# Altium footprint library Userlib.PcbLib: 17 footprints (part 1 of 2)
Each footprint in its own frame and in the unit in brackets; x right, y up, seen from the top. Pads: shape width x height; smd on the part's side, far side on the other; paste and mask are expansions set on the pad; w line width, h text height; cw(c..) or ccw(c..) is an arc to the next point about the centre after c.
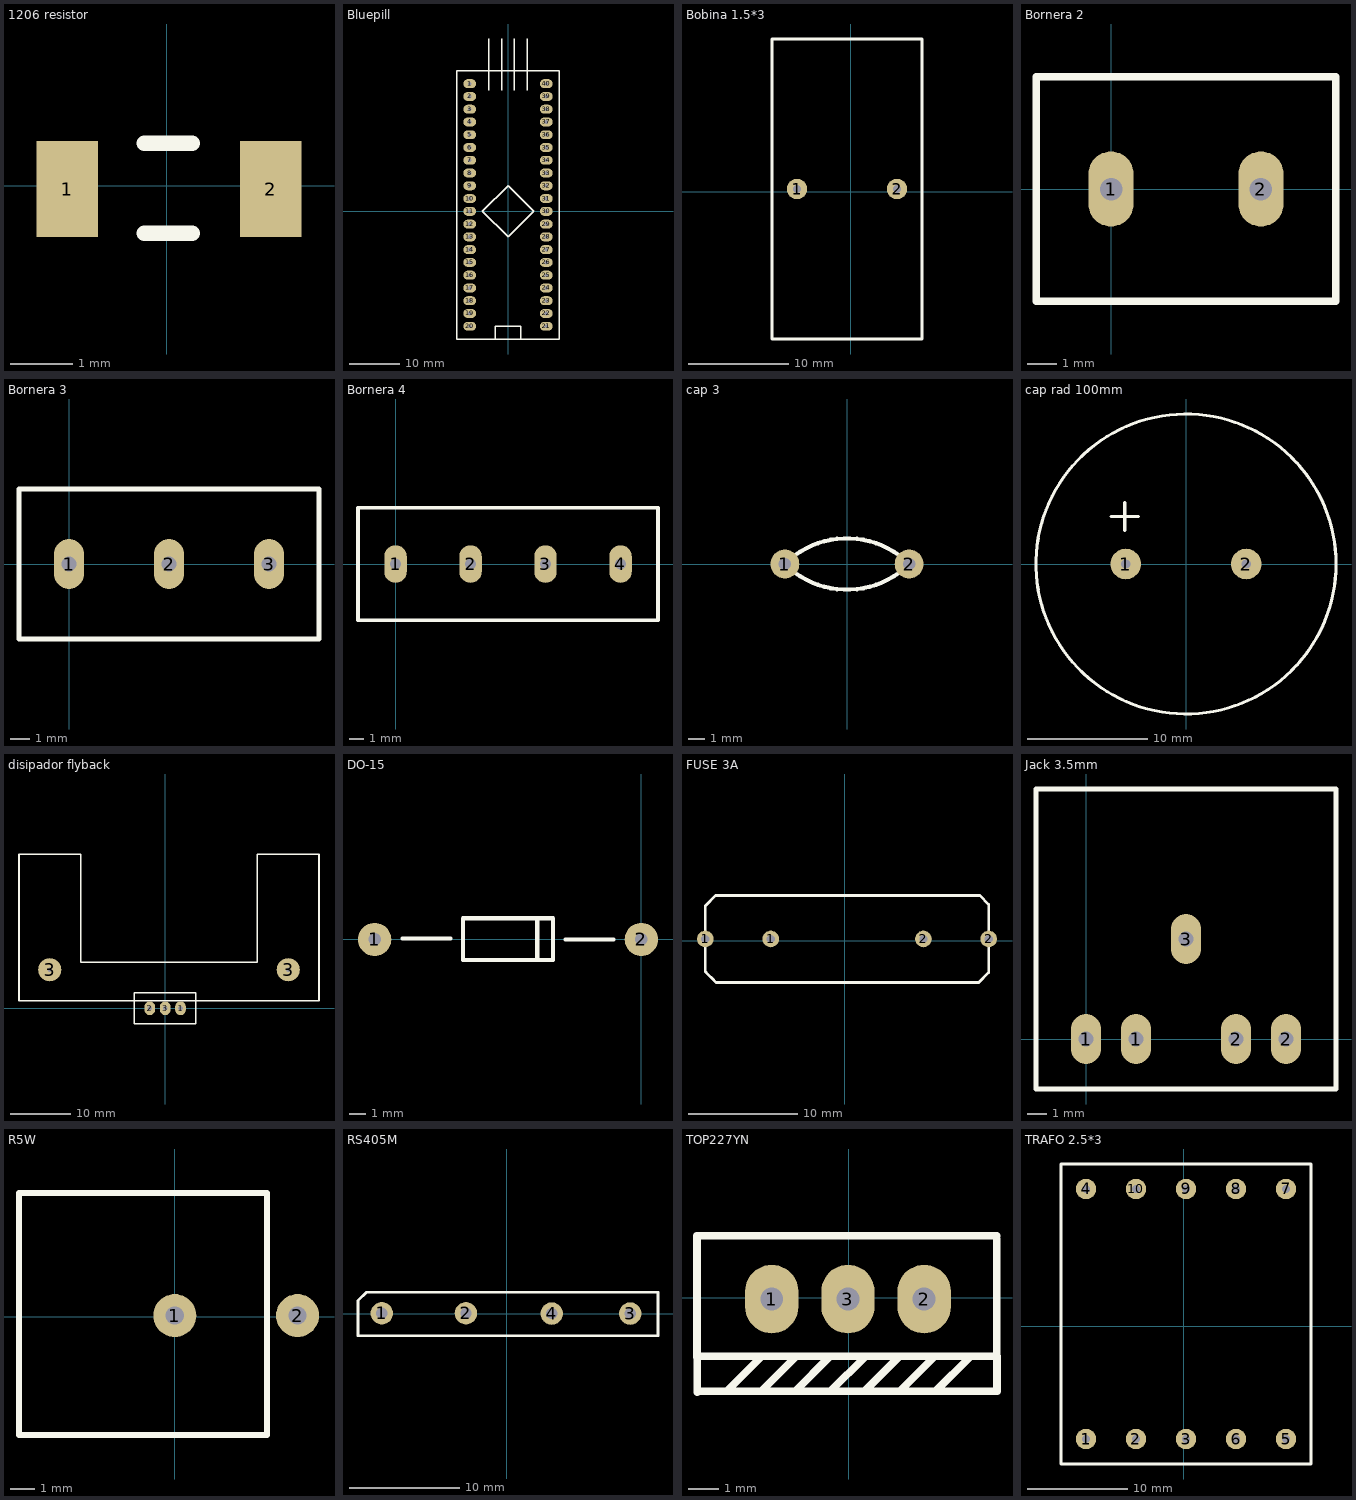
[diagram p0: the footprints below, top view; thin cyan lines are the x and y axes]

## 1206 resistor [mil]
pads (2):
  rect 39x61 smd: 1(-63,-2) 2(66,-2)
Top Overlay:
  lines w10: -14,-30 16,-30 ; -14,27 16,27

## Bluepill [mil]
pads (40):
  oval 100x70 hole 30: 1(-300,1000) 2(-300,900) 3(-300,800) 4(-300,700) 5(-300,600) 6(-300,500) 7(-300,400) 8(-300,300) 9(-300,200) 10(-300,100) 11(-300,0) 12(-300,-100) 13(-300,-200) 14(-300,-300) 15(-300,-400) 16(-300,-500) 17(-300,-600) 18(-300,-700) 19(-300,-800) 20(-300,-900) 21(300,-900) 22(300,-800) 23(300,-700) 24(300,-600) 25(300,-500) 26(300,-400) 27(300,-300) 28(300,-200) 29(300,-100) 30(300,0) 31(300,100) 32(300,200) 33(300,300) 34(300,400) 35(300,500) 36(300,600) 37(300,700) 38(300,800) 39(300,900) 40(300,1000)
Top Overlay:
  lines w10: -150,950 -150,1350 ; -100,-1000 -100,-900 100,-900 100,-1000 ; -50,950 -50,1350 ; 50,950 50,1350 ; 150,950 150,1350 ; -400,-1000 -400,1100 400,1100 400,-1000 -400,-1000 ; -200,0 0,-200 200,0 0,200 -200,0

## Bobina 1.5*3 [mil]
pads (2):
  round 80 hole 30: 1(-210.7,11) 2(183,11)
Top Overlay:
  lines w10: -309.12,-579.55 281.43,-579.55 281.43,11 281.43,601.55 -309.12,601.55 -309.12,-579.55

## Bornera 2 [mil]
pads (2):
  oval 60x100 hole 30: 1(0,0) 2(200,0)
Top Overlay:
  lines w10: -100,-150 300,-150 300,150 -100,150 -100,-150

## Bornera 3 [mil]
pads (3):
  oval 60x100 hole 30: 1(0,0) 2(200,0) 3(400,0)
Top Overlay:
  lines w10: -100,-150 500,-150 500,150 -100,150 -100,-150

## Bornera 4 [mil]
pads (4):
  oval 60x100 hole 30: 1(0,0) 2(200,0) 3(400,0) 4(600,0)
Top Overlay:
  lines w10: -100,-150 -100,150 700,150 700,-150 -100,-150

## cap 3 [mil]
pads (2):
  round 70 hole 30: 1(-150,0) 2(150,0)
Top Overlay:
  lines w10: -150,0 cw(c0,-150) 150,0 cw(c0,150) -150,0

## cap rad 100mm [mil]
pads (2):
  round 100 hole 30: 1(-196.85,0) 2(196.85,0)
Top Overlay:
  circle w10: c0,0 r490
  lines w10: -245,155 -155,155 ; -200,110 -200,200

## disipador flyback [mil]
pads (5):
  oval 70x90 hole 30 square: 1(100,0) 2(-100,0) 3(0,0)
  round 150 hole 30 square: 3(-750,250) 3(800,250)
Top Overlay:
  lines w10: -200,50 -950,50 -950,1000 -550,1000 -550,300 600,300 600,1000 1000,1000 1000,50 200,50 ; -200,50 200,50 ; -200,50 -200,100 ; -200,100 200,100 200,50 ; -200,100 -200,-100 200,-100 200,50

## DO-15 [mil]
pads (2):
  round 80 hole 30: 1(-640,0) 2(0,0)
Top Overlay:
  lines w10: -573,2 -458,2 ; -250,-49 -250,-24 -250,26 -250,51 ; -182,0 -67,0 ; -428,-49 -428,51 -212,51 -212,-49 -428,-49

## FUSE 3A [mil]
pads (4):
  round 60 hole 30: 1(-502.88,6.6) 1(-266.68,6.6) 2(284.52,6.6) 2(520.02,6.6)
Top Overlay:
  lines w10: -465.48,163.5 488.02,163.5 520.02,131.5 520.02,6.6 520.02,-110.8 520.02,-114.8 484.02,-150.8 -463.97,-150.8 -478,-136.78 -493.73,-121.05 -500.85,-113.92 -502.88,-111.9 -502.88,6.6 -502.88,126.4 -465.48,163.8

## Jack 3.5mm [mil]
pads (5):
  oval 60x100 hole 30: 1(0,0) 1(100,0) 2(300,0) 2(400,0) 3(200,200)
Top Layer:
  region: 400,400
Top Overlay:
  lines w10: -100,-100 -100,500 500,500 500,-100 -100,-100

## R5W [mil]
pads (2):
  round 70 hole 30: 1(0.21,2) 2(200.21,2)
Top Overlay:
  lines w10: -253.79,-193 -244.79,-193 150.21,-193 150.21,202 -246.79,202 -253.79,202 -253.79,-193

## RS405M [mil]
pads (4):
  round 80 hole 40: 1(-446,1) 2(-146,1) 3(440,0) 4(160,0)
Top Overlay:
  lines w10: -531,-79 -531,46 -501,76 539,76 539,-79 -531,-79

## TOP227YN [mil]
pads (3):
  oval 70x90 hole 30: 1(-101,-2) 2(99,-2) 3(-1,-2)
Top Overlay:
  lines w10: -199.2,-78.5 -199.2,-15.1 -199.2,77.5 ; -199.2,80.9 -120.4,80.9 ; -199.05,-124.15 -199.05,-123.25 -199.05,-77.25 194.65,-77.25 ; -198.15,-123.25 125.95,-123.25 ; -159.9,-122.8 -115.45,-78.35 ; -123.9,80.9 194.5,80.9 ; -114.05,-122.25 -68.95,-77.15 ; -70.35,-123.15 -25.25,-78.05 ; -23.55,-122.55 21.55,-77.45 ; 21.55,-122.05 64.7,-78.9 ; 67.45,-122.55 112.55,-77.45 ; 114.55,-122.55 159.65,-77.45 ; 117.05,-123.25 194.65,-123.25 194.65,-77.45 ; 194.5,-79.1 194.5,77.1

## TRAFO 2.5*3 [mil]
pads (10):
  round 80 hole 30: 1(-385.76,-444.21) 2(-188.91,-444.21) 3(7.94,-444.21) 4(-385.76,540.04) 5(401.64,-444.21) 6(204.79,-444.21) 7(401.64,540.04) 8(204.79,540.04) 9(7.94,540.04) 10(-188.91,540.04)
Top Overlay:
  lines w10: -484.19,-542.64 500.06,-542.64 500.06,638.46 -484.19,638.46 -484.19,-542.64